# Altium schematic symbol library Oscillator.SchLib: 1 symbol
Pins are listed as number, name and electrical type; pins without a type are passive.

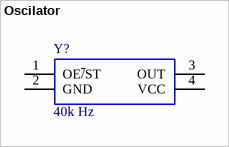
[diagram p0: symbol Oscilator]

## Oscilator
designator Y?, comment 40k Hz
Standard Clock Oscillators; Manufacturer_Name: Epson Timing; Manufacturer_Part_Number: SG-636PCW 50.0000MC3: ROHS; RS Part Number: *; RS Price/Stock: *; Arrow Part Number: SG-636PCW 50.0000MC3: ROHS; Arrow Price/Stock: *; Digi-Key_Part_Number: SER3624CT-ND; ComponentLink1Description: Digi-Key_Purchase_URL; ComponentLink1URL: https://www.digikey.com/en/products/detail/epson/SG-636PTF-40.0000MC3-ROHS/1532628; ComponentLink2Description: Datasheet_Link; ComponentLink2URL: https://support.epson.biz/td/api/doc_check.php?dl=brief_SG-636PTF&lang=en
footprint SG-636_3D
pins: 1 OE~{/}ST, 2 GND, 3 OUT, 4 VCC (power)